# Altium footprint library Altium LCOGT PCB LIB.PCBLIB: 329 footprints (part 21 of 21)
Each footprint in its own frame and in the unit in brackets; x right, y up, seen from the top. Pads: shape width x height; smd on the part's side, far side on the other; paste and mask are expansions set on the pad; w line width, h text height; cw(c..) or ccw(c..) is an arc to the next point about the centre after c.
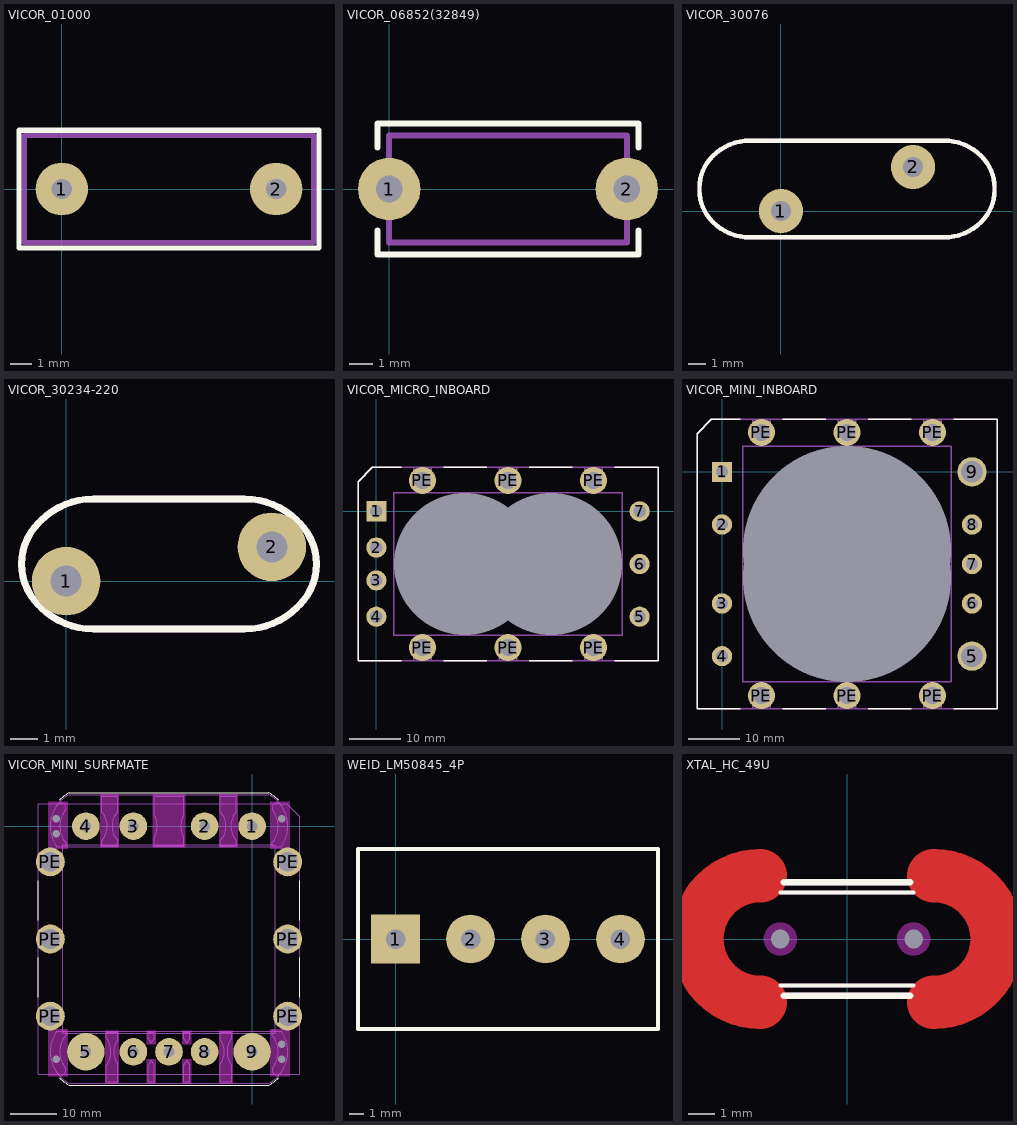
[diagram p20: the footprints below, top view; thin cyan lines are the x and y axes]

## VICOR_01000 [mil]
pads (2):
  round 98 hole 38: 1(0,0) 2(400,0)
TopOverlay:
  lines w10: -80,-110 -80,110 480,110 480,-110 -80,-110
Mechanical3:
  lines w10: -70,-100 -70,100 200,100 470,100 470,-100 -70,-100

## VICOR_06852(32849) [mil] "MULTILAYER POLYMER CAP,TH"
pads (2):
  round 105 hole 45: 1(0,0) 2(400,0)
TopOverlay:
  lines w10: -20,-70 -20,-110 420,-110 420,-70 ; -20,70 -20,110 410,110 420,110 420,70
Mechanical3:
  lines w10: 0,-90 0,0 0,90 400,90 400,-90 0,-90

## VICOR_30076 [mil] "MOV"
pads (2):
  round 100 hole 45: 1(0,0) 2(300,100)
TopOverlay:
  lines w10: -185,45 -185,55 ; -185,46.92 ccw(c-83.79,46.92) -155.36,-24.64 ccw(c-70,60.71) -70,-60 370,-60 ccw(c370,60.71) 455.36,-24.64 ccw(c383.79,46.92) 485,46.92 ; -185,53.08 cw(c-83.79,53.08) -155.36,124.64 cw(c-70,39.29) -70,160 -65,160 370,160 cw(c370,39.29) 455.36,124.64 cw(c383.79,53.08) 485,53.08 ; 485,45 485,55
Mechanical3:
  lines w10: -185,47.43 ccw(c-82.57,47.43) -155,-25 ccw(c-70.5,59.5) -70.5,-60 ; -185,50 -185,52.57 cw(c-82.57,52.57) -155,125 cw(c-70.5,40.5) -70.5,160 ; -70,-60 370,-60 ; -70,160 370,160 ; 370.5,-60 ccw(c370.5,59.5) 455,-25 ccw(c382.57,47.43) 485,47.43 ; 370.5,160 cw(c370.5,40.5) 455,125 cw(c382.57,52.57) 485,52.57

## VICOR_30234-220 [mil] "MOV"
pads (2):
  round 100 hole 45: 1(0,0) 2(300,50)
TopOverlay:
  lines w10: -40.25,-34.75 cw(c19.5,25) -65,25 cw(c19.5,25) -40.25,84.75 ; -36.82,-38.18 ccw(c40,38.64) 40,-70 260,-70 ccw(c260,38.64) 336.82,-38.18 ; -36.82,88.18 cw(c40,11.36) 40,120 260,120 cw(c260,11.36) 336.82,88.18 ; 340.25,-34.75 ccw(c280.5,25) 365,25 ccw(c280.5,25) 340.25,84.75
Mechanical3:
  lines w10: -40.25,-34.75 cw(c19.5,25) -65,25 cw(c19.5,25) -40.25,84.75 -36.82,88.18 cw(c40,11.36) 40,120 260,120 cw(c260,11.36) 336.82,88.18 ; -36.82,-38.18 ccw(c40,38.64) 40,-70 260,-70 ccw(c260,38.64) 336.82,-38.18 ; 340.25,-34.75 ccw(c280.5,25) 365,25 ccw(c280.5,25) 340.25,84.75

## VICOR_MICRO_INBOARD [mil]
pads (15):
  rect 154x154 hole 94: 1(0,0)
  round 154 hole 94: 2(0,-275) 3(0,-525) 4(0,-800) 5(2000,-800) 6(2000,-400) 7(2000,0)
  round 205 hole 130: PE(350,-1035) PE(350,235) PE(1000,-1035) PE(1000,235) PE(1650,-1035) PE(1650,235)
  rect 0x0 hole 1080 square unplated: ""(673,-400) ""(1327,-400)
TopOverlay:
  lines w10: 190,-1135 -140,-1135 -140,225 -30,335 190,335 ; 510,-1135 840,-1135 ; 510,335 840,335 ; 1160,-1135 1490,-1135 ; 1160,335 1490,335 ; 1810,-1135 2140,-1135 2140,335 1810,335
Mechanical3:
  lines w10: 285,-1135 285,-1035 cw(c350,-1035) 415,-1035 415,-1135 ; 285,335 285,235 ccw(c350,235) 415,235 415,335 ; 350,-1135 350,-1035 ; 350,235 350,335 ; 935,-1135 935,-1035 cw(c1000,-1035) 1065,-1035 1065,-1135 ; 935,335 935,235 ccw(c1000,235) 1065,235 1065,335 ; 1000,-1135 1000,-1035 ; 1000,235 1000,335 ; 1585,-1135 1585,-1035 cw(c1650,-1035) 1715,-1035 1715,-1135 ; 1585,335 1585,235 ccw(c1650,235) 1715,235 1715,335 ; 1650,-1135 1650,-1035 ; 1650,235 1650,335 ; -140,-1135 2140,-1135 2140,335 -30,335 -140,225 -140,-1135 ; 133,-940 133,140 1867,140 1867,-940 133,-940

## VICOR_MINI_INBOARD [mil] "VICOR MINI MODULE, INBOARD MOUNTING"
pads (17):
  rect 154x154 hole 94: 1(0,0)
  round 154 hole 94: 2(0,-400) 3(0,-1000) 4(0,-1400) 6(1900,-1000) 7(1900,-700) 8(1900,-400)
  round 224 hole 164: 5(1900,-1400) 9(1900,0)
  round 205 hole 130: PE(300,-1700) PE(300,300) PE(950,-1700) PE(950,300) PE(1600,-1700) PE(1600,300)
  round 0 hole 1584 square unplated: ""(950,-803) ""(950,-597)
TopOverlay:
  lines w10: 140,-1800 -190,-1800 -190,290 -80,400 140,400 ; 460,-1800 790,-1800 ; 460,400 790,400 ; 1110,-1800 1440,-1800 ; 1110,400 1440,400 ; 1760,-1800 2090,-1800 2090,400 1760,400
Mechanical3:
  lines w10: 235,-1800 235,-1700 cw(c300,-1700) 365,-1700 365,-1800 ; 235,400 235,300 ccw(c300,300) 365,300 365,400 ; 300,-1800 300,-1700 ; 300,300 300,400 ; 885,-1800 885,-1700 cw(c950,-1700) 1015,-1700 1015,-1800 ; 885,400 885,300 ccw(c950,300) 1015,300 1015,400 ; 950,-1800 950,-1700 ; 950,300 950,400 ; 1535,-1800 1535,-1700 cw(c1600,-1700) 1665,-1700 1665,-1800 ; 1535,400 1535,300 ccw(c1600,300) 1665,300 1665,400 ; 1600,-1800 1600,-1700 ; 1600,300 1600,400 ; -190,-1800 2090,-1800 2090,400 -80,400 -190,290 -190,-1570 -190,-1800 ; 158,-1595 1742,-1595 1742,-1400 1742,0 1742,195 158,195 158,0 158,-1400 158,-1595

## VICOR_MINI_SURFMATE [mil]
pads (21):
  round 233 hole 90: 1(0,0) 2(-400,0) 3(-1000,0) 4(-1400,0) 6(-1000,-1900) 7(-700,-1900) 8(-400,-1900)
  round 316 hole 90: 5(-1400,-1900) 9(0,-1900)
  round 244 hole 166: PE(-1700,-1600) PE(-1700,-950) PE(-1700,-300) PE(300,-1600) PE(300,-950) PE(300,-300)
  rect 0x0 hole 64 unplated: ""(-1650,-1963) ""(-1650,-62) ""(-1650,63) ""(250,-1963) ""(250,-1838) ""(250,63)
TopLayer keep-out:
  rectangle: -1720,-2110 -1550,-1710
  rectangle: -1240,-2170 -1120,-1720
  rectangle: -890,-1840 -810,-1720
  rectangle: -890,-2170 -810,-1960
  rectangle: -590,-1840 -510,-1720
  rectangle: -590,-2170 -510,-1960
  rectangle: -280,-2170 -160,-1720
  rectangle: 150,-2110 320,-1710
  rectangle: 150,-190 320,210
  rectangle: -280,-180 -120,270
  rectangle: -840,-180 -560,270
  rectangle: -1280,-180 -1120,270
  rectangle: -1720,-190 -1550,210
TopOverlay:
  lines w10: -1800,-1440 -1800,-1110 ; -1800,-790 -1800,-460 ; -1625.15,-2118.15 ccw(c-1400,-1900) -1541.01,-2180 ; -1625.15,218.15 cw(c-1400,0) -1541.01,280 ; -1540,-2180 140,-2180 ; -1540,280 140,280 ; 141.01,-2180 ccw(c0,-1900) 225.15,-2118.15 ; 141.01,280 cw(c0,0) 225.15,218.15 ; 400,-1440 400,-1110 ; 400,-790 400,-460
TopSolder:
  rectangle: 150,-2110 320,-1710
  region: -1550,-1710 -1720,-1710 -1720,-2110 -1550,-2110
  rectangle: 150,-190 320,210
  rectangle: -280,-180 -120,270
  region: -1120,270 -1280,270 -1280,-180 -1120,-180
  region: -1550,210 -1720,210 -1720,-190 -1550,-190
  rectangle: -840,-180 -560,270
  rectangle: -280,-2170 -160,-1720
  rectangle: -590,-2170 -510,-1960
  region: -1120,-1720 -1240,-1720 -1240,-2170 -1120,-2170
  region: -810,-1960 -890,-1960 -890,-2170 -810,-2170
  rectangle: -890,-1840 -810,-1720
  region: -510,-1720 -590,-1720 -590,-1840 -510,-1840
Mechanical3:
  lines w10: -1800,-1665 -1700,-1665 ccw(c-1700,-1600) -1700,-1535 -1800,-1535 ; -1800,-1600 -1700,-1600 ; -1800,-1015 -1700,-1015 ccw(c-1700,-950) -1700,-885 -1800,-885 ; -1800,-950 -1700,-950 ; -1800,-365 -1700,-365 ccw(c-1700,-300) -1700,-235 -1800,-235 ; -1800,-300 -1700,-300 ; -1638.31,-2082.24 cw(c-1400,-1900) -1643.78,-1725.16 ccw(c-1400,-1900) -1540.5,-2165.06 ; -1638.31,182.24 ccw(c-1400,0) -1643.78,-174.84 cw(c-1400,0) -1540.5,265.06 ; -1638.24,-2082.29 ccw(c-1609,-2055) -1575.72,-2032.81 ; -1638.24,182.29 cw(c-1609,155) -1575.72,132.81 ; -1584,-1725.02 cw(c-1583,-1745) -1565.76,-1755.14 ; -1584,-174.98 ccw(c-1583,-155) -1565.76,-144.86 ; -1583,-1725 -1643,-1725 243,-1725 183,-1725 ; -1583,-175 -1643,-175 243,-175 183,-175 ; -1575.52,-2032.64 cw(c-1400,-1900) -1566.12,-1755.76 ; -1575.52,132.64 ccw(c-1400,0) -1566.12,-144.24 ; -1540,-2165 -700,-2165 140,-2165 ; -1540,265 -700,265 140,265 ; -1267,-121 -1267,-164 -1133,-164 -1133,-121 ; -1267,122 -1267,254 -1133,254 -1133,122 ; -1266.86,-121.13 ccw(c-1400,0) -1266.86,121.13 ; -1227,-2019 -1227,-2154 -1133,-2154 -1133,-2001 cw(c-1000,-1900) -1133,-1799 -1133,-1736 -1227,-1736 -1227,-1781 cw(c-1400,-1900) -1226.83,-2018.8 ; -1133.14,-121.13 cw(c-1000,0) -1133.14,121.13 ; -875.13,-2010.89 ccw(c-1000,-1900) -849.84,-1973.08 ; -875.13,-1789.11 cw(c-1000,-1900) -850.23,-1826.12 ; -875,-2011 -875,-2154 -825,-2154 -825,-2011 ; -875,-1789 -875,-1736 -825,-1736 -825,-1789 ; -850.16,-1973.08 ccw(c-700,-1900) -824.87,-2010.89 ; -849.96,-1826.51 cw(c-700,-1900) -824.87,-1789.11 ; -825.07,-96.96 ccw(c-1000,0) -825.07,96.96 ; -825,-97 -825,-164 -575,-164 -575,-97 ; -825,97 -825,254 -575,254 -575,97 ; -575.13,-2010.89 ccw(c-700,-1900) -549.84,-1973.08 ; -575.13,-1789.11 cw(c-700,-1900) -550.04,-1826.51 ; -575,-2011 -575,-2154 -525,-2154 -525,-2011 ; -575,-1789 -575,-1736 -525,-1736 -525,-1789 ; -574.93,-96.96 cw(c-400,0) -574.93,96.96 ; -550.16,-1973.08 ccw(c-400,-1900) -524.87,-2010.89 ; -549.77,-1826.12 cw(c-400,-1900) -524.87,-1789.11 ; -267,-121 -267,-164 -133,-164 -133,-121 ; -267,122 -267,254 -133,254 -133,122 ; -266.86,-121.13 ccw(c-400,0) -266.86,121.13 ; -173.17,-2018.8 cw(c0,-1900) -173.02,-1780.99 -173,-1736 -267,-1736 -267,-1799 cw(c-400,-1900) -267,-2001 -267,-2154 -173,-2154 -173,-2019 ; -133.14,-121.13 cw(c0,0) -133.14,121.13 ; 140.5,-2165.06 ccw(c0,-1900) 243.78,-1725.16 cw(c0,-1900) 238.31,-2082.24 ; 140.5,265.06 cw(c0,0) 243.78,-174.84 ccw(c0,0) 238.31,182.24 ; 165.76,-1755.14 cw(c183,-1745) 184,-1725.02 ; 165.76,-144.86 ccw(c183,-155) 184,-174.98 ; 166.12,-1755.76 cw(c0,-1900) 175.52,-2032.64 ; 166.12,-144.24 ccw(c0,0) 175.52,132.64 ; 175.72,-2032.81 ccw(c209,-2055) 238.24,-2082.29 ; 175.72,132.81 cw(c209,155) 238.24,182.29 ; 300,-1600 400,-1600 ; 300,-950 400,-950 ; 300,-300 400,-300 ; 400,-1665 300,-1665 cw(c300,-1600) 300,-1535 400,-1535 ; 400,-1015 300,-1015 cw(c300,-950) 300,-885 400,-885 ; 400,-365 300,-365 cw(c300,-300) 300,-235 400,-235 ; -1800,-2090 -1800,190 -1570,190 290,190 400,80 400,-2090 -1800,-2090 ; -1595,-1742 -1400,-1742 0,-1742 195,-1742 195,-158 0,-158 -1400,-158 -1595,-158 -1595,-1742

## WEID_LM50845_4P [mil]
pads (4):
  rect 130x130 hole 52: 1(0,0)
  round 130 hole 52: 2(200,0) 3(400,0) 4(600,0)
TopOverlay:
  lines w10: -100,-240 -100,240 700,240 700,-240 -100,-240

## XTAL_HC_49U [mil]
pads (2):
  round 10 / inner round 50 / far side round 50 hole 28: 1(-100,0) 2(100,0)
TopLayer:
  lines w80: -130,-95 cw(c-130,0) -130,95 ; 130,-95 ccw(c130,0) 130,95
TopOverlay:
  lines w6: -100,-70 100,-70 ; -100,70 100,70
  lines w10: -95,-85 95,-85 ; -95,85 95,85
TopSolder:
  lines w86: -130,-95 cw(c-130,0) -130,95 ; 130,-95 ccw(c130,0) 130,95
KeepOutLayer:
  circle w30: c100,0 r10
  circle w30: c-100,0 r10
Mechanical3:
  lines w6: -130,-70 cw(c-130,0) -130,70 130,70 cw(c130,0) 130,-70 -130,-70
  lines w10: -130,-85 cw(c-130,0) -130,85 135,85 cw(c135,0) 135,-85 -130,-85